# EAGLE library part M08X1 (library Connectors)
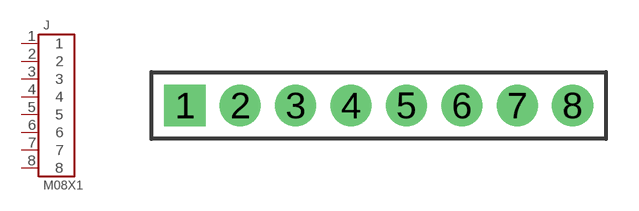
[diagram p17: symbol with the pads of M08X1; footprint M08X1]

Designator prefix J

## M08X1  [M08X1]
1  1
2  2
3  3
4  4
5  5
6  6
7  7
8  8

## Footprint M08X1 (pad centres in mm)
drill 1.016 pad 1.88 square: 1 0,0
drill 1.016 pad 1.88: 2 2.54,0; 3 5.08,0; 4 7.62,0; 5 10.16,0; 6 12.7,0; 7 15.24,0; 8 17.78,0